# Altium footprint library CL10B681JB8NNNC.PcbLib: 3 footprints
Each footprint in its own frame and in the unit in brackets; x right, y up, seen from the top. Pads: shape width x height; smd on the part's side, far side on the other; paste and mask are expansions set on the pad; w line width, h text height; cw(c..) or ccw(c..) is an arc to the next point about the centre after c.
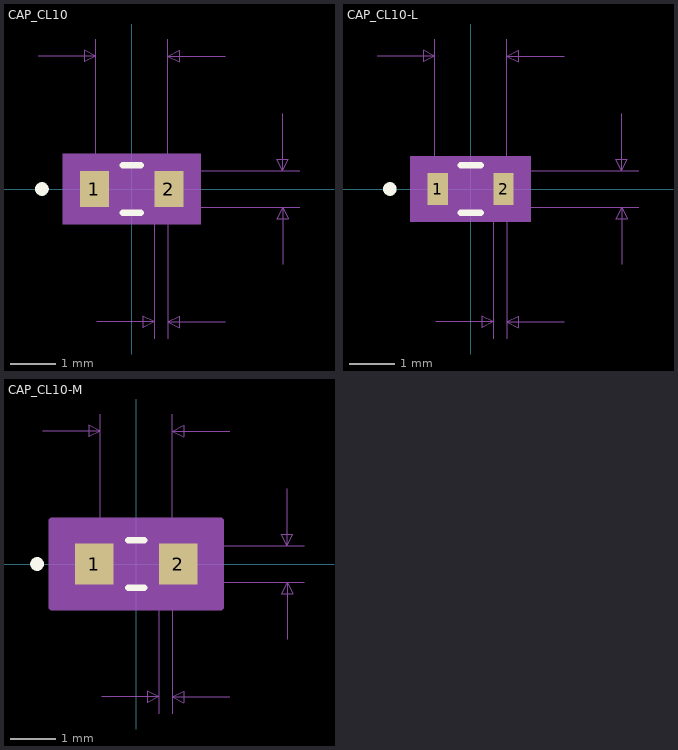
[diagram p0: the footprints below, top view; thin cyan lines are the x and y axes]

## CAP_CL10 [mm]
pads (2):
  rect 0.65x0.8 smd paste+0 mask+0: 1(-0.825,0) 2(0.825,0)
Top Overlay:
  circle w0.152: c-1.988,0 r0.076
  lines w0.152: -0.192,-0.527 0.192,-0.527 ; -0.192,0.527 0.192,0.527
Mechanical 5:
  region: 1.531,-0.781 -1.531,-0.781 -1.531,0.781 1.531,0.781
Mechanical 7:
  lines w0.025: -2.07,2.94 -0.8,2.94 ; -0.8,0 -0.8,3.321 ; -0.77,-2.94 0.5,-2.94 ; 0,-0.4 3.721,-0.4 ; 0,0.4 3.721,0.4 ; 0.5,-3.321 0.5,0 ; 0.8,-3.321 0.8,0 0.8,3.321 ; 2.07,-2.94 0.8,-2.94 ; 2.07,2.94 0.8,2.94 ; 3.34,-1.67 3.34,-0.4 ; 3.34,1.67 3.34,0.4 ; -0.8,2.94 -1.054,3.067 -1.054,2.813 -0.8,2.94 ; 0.5,-2.94 0.246,-2.813 0.246,-3.067 0.5,-2.94 ; 0.8,-2.94 1.054,-2.813 1.054,-3.067 0.8,-2.94 ; 0.8,2.94 1.054,3.067 1.054,2.813 0.8,2.94 ; 3.34,-0.4 3.213,-0.654 3.467,-0.654 3.34,-0.4 ; 3.34,0.4 3.213,0.654 3.467,0.654 3.34,0.4
  text "Default Padstyle: r65_80" at -7.62,-7.258 h1.27
  text "Alternate 1 Padstyle: b152_229h76" at -10.477,-9.798 h1.27
  text "Alternate 2 Padstyle: b229_152h76" at -10.477,-12.338 h1.27
  text "0.031in/0.8mm" at 3.848,-0.318 h0.64
  text "0.063in/1.6mm" at -2.064,3.448 h0.64
  text "0.012in/0.3mm" at -1.414,-4.083 h0.64
Mechanical 13:
  circle w0: c-0.698,0 r0.076
  lines w0.025: -0.8,-0.4 -0.8,0.4 ; -0.8,-0.4 -0.5,-0.4 -0.5,0.4 -0.8,0.4 ; -0.8,-0.4 0.8,-0.4 ; -0.8,-0.4 -0.8,0.4 ; -0.8,0.4 0.8,0.4 ; 0.8,-0.4 0.5,-0.4 0.5,0.4 0.8,0.4 ; 0.8,-0.4 0.8,0.4 ; 0.8,-0.4 0.8,0.4
Mechanical 15:
  region: 1.404,-0.654 -1.404,-0.654 -1.404,0.654 1.404,0.654
  lines w0.152: -1.404,-0.654 -1.404,0.654 1.404,0.654 1.404,-0.654 -1.404,-0.654
3D body: height 0.25, standoff 0, extent 0,0 0.254,0.254

## CAP_CL10-L [mm]
pads (2):
  rect 0.452x0.698 smd paste+0 mask+0: 1(-0.726,0) 2(0.726,0)
Top Overlay:
  circle w0.152: c-1.791,0 r0.076
  lines w0.152: -0.219,-0.527 0.219,-0.527 ; -0.219,0.527 0.219,0.527
Mechanical 5:
  region: 1.333,-0.73 -1.333,-0.73 -1.333,0.73 1.333,0.73
Mechanical 7:
  lines w0.025: -2.07,2.94 -0.8,2.94 ; -0.8,0 -0.8,3.321 ; -0.77,-2.94 0.5,-2.94 ; 0,-0.4 3.721,-0.4 ; 0,0.4 3.721,0.4 ; 0.5,-3.321 0.5,0 ; 0.8,-3.321 0.8,0 0.8,3.321 ; 2.07,-2.94 0.8,-2.94 ; 2.07,2.94 0.8,2.94 ; 3.34,-1.67 3.34,-0.4 ; 3.34,1.67 3.34,0.4 ; -0.8,2.94 -1.054,3.067 -1.054,2.813 -0.8,2.94 ; 0.5,-2.94 0.246,-2.813 0.246,-3.067 0.5,-2.94 ; 0.8,-2.94 1.054,-2.813 1.054,-3.067 0.8,-2.94 ; 0.8,2.94 1.054,3.067 1.054,2.813 0.8,2.94 ; 3.34,-0.4 3.213,-0.654 3.467,-0.654 3.34,-0.4 ; 3.34,0.4 3.213,0.654 3.467,0.654 3.34,0.4
  text "Default Padstyle: RX17p81Y27p5D0T" at -10.477,-7.207 h1.27
  text "Alternate 1 Padstyle: OX60Y90D30P" at -10.477,-9.747 h1.27
  text "Alternate 2 Padstyle: OX90Y60D30P" at -10.477,-12.287 h1.27
  text "0.031in/0.8mm" at 3.848,-0.318 h0.64
  text "0.063in/1.6mm" at -2.064,3.448 h0.64
  text "0.012in/0.3mm" at -1.414,-4.083 h0.64
Mechanical 13:
  circle w0: c-0.599,0 r0.076
  lines w0.025: -0.8,-0.4 -0.8,0.4 ; -0.8,-0.4 -0.5,-0.4 -0.5,0.4 -0.8,0.4 ; -0.8,-0.4 0.8,-0.4 ; -0.8,-0.4 -0.8,0.4 ; -0.8,0.4 0.8,0.4 ; 0.8,-0.4 0.5,-0.4 0.5,0.4 0.8,0.4 ; 0.8,-0.4 0.8,0.4 ; 0.8,-0.4 0.8,0.4
Mechanical 15:
  region: 1.054,-0.451 -1.054,-0.451 -1.054,0.451 1.054,0.451
  lines w0.152: -1.054,-0.451 -1.054,0.451 1.054,0.451 1.054,-0.451 -1.054,-0.451
3D body: height 0.25, standoff 0, extent 0,0 0.254,0.254

## CAP_CL10-M [mm]
pads (2):
  rect 0.859x0.902 smd paste+0 mask+0: 1(-0.929,0) 2(0.929,0)
Top Overlay:
  circle w0.152: c-2.197,0 r0.076
  lines w0.152: -0.176,-0.527 0.176,-0.527 ; -0.176,0.527 0.176,0.527
Mechanical 5:
  region: 1.74,-0.832 -1.74,-0.832 -1.74,0.832 1.74,0.832
Mechanical 7:
  lines w0.025: -2.07,2.94 -0.8,2.94 ; -0.8,0 -0.8,3.321 ; -0.77,-2.94 0.5,-2.94 ; 0,-0.4 3.721,-0.4 ; 0,0.4 3.721,0.4 ; 0.5,-3.321 0.5,0 ; 0.8,-3.321 0.8,0 0.8,3.321 ; 2.07,-2.94 0.8,-2.94 ; 2.07,2.94 0.8,2.94 ; 3.34,-1.67 3.34,-0.4 ; 3.34,1.67 3.34,0.4 ; -0.8,2.94 -1.054,3.067 -1.054,2.813 -0.8,2.94 ; 0.5,-2.94 0.246,-2.813 0.246,-3.067 0.5,-2.94 ; 0.8,-2.94 1.054,-2.813 1.054,-3.067 0.8,-2.94 ; 0.8,2.94 1.054,3.067 1.054,2.813 0.8,2.94 ; 3.34,-0.4 3.213,-0.654 3.467,-0.654 3.34,-0.4 ; 3.34,0.4 3.213,0.654 3.467,0.654 3.34,0.4
  text "Default Padstyle: RX33p81Y35p5D0T" at -10.477,-7.309 h1.27
  text "Alternate 1 Padstyle: OX60Y90D30P" at -10.477,-9.849 h1.27
  text "Alternate 2 Padstyle: OX90Y60D30P" at -10.477,-12.389 h1.27
  text "0.031in/0.8mm" at 3.848,-0.318 h0.64
  text "0.063in/1.6mm" at -2.064,3.448 h0.64
  text "0.012in/0.3mm" at -1.414,-4.083 h0.64
Mechanical 13:
  circle w0: c-0.802,0 r0.076
  lines w0.025: -0.8,-0.4 -0.8,0.4 ; -0.8,-0.4 -0.5,-0.4 -0.5,0.4 -0.8,0.4 ; -0.8,-0.4 0.8,-0.4 ; -0.8,-0.4 -0.8,0.4 ; -0.8,0.4 0.8,0.4 ; 0.8,-0.4 0.5,-0.4 0.5,0.4 0.8,0.4 ; 0.8,-0.4 0.8,0.4 ; 0.8,-0.4 0.8,0.4
Mechanical 15:
  region: 1.867,-0.959 -1.867,-0.959 -1.867,0.959 1.867,0.959
  lines w0.152: -1.867,-0.959 -1.867,0.959 1.867,0.959 1.867,-0.959 -1.867,-0.959
3D body: height 0.25, standoff 0, extent 0,0 0.254,0.254